# EAGLE library part XUNTONG (library surdu)
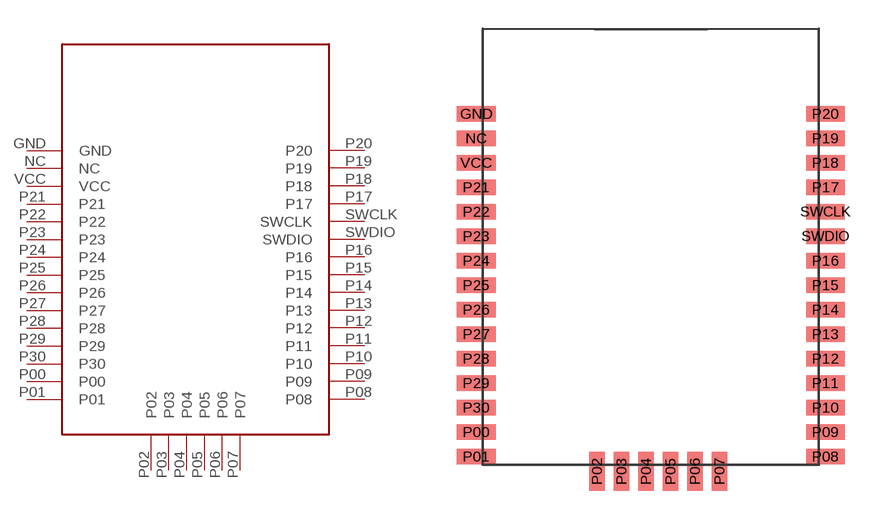
[diagram p0: symbol with the pads of SMD; footprint SMD]

Designator prefix -

## XUNTONG  [SMD]
GND  GND
NC  NC
P00  P00
P01  P01
P02  P02
P03  P03
P04  P04
P05  P05
P06  P06
P07  P07
P08  P08
P09  P09
P10  P10
P11  P11
P12  P12
P13  P13
P14  P14
P15  P15
P16  P16
P17  P17
P18  P18
P19  P19
P20  P20
P21  P21
P22  P22
P23  P23
P24  P24
P25  P25
P26  P26
P27  P27
P28  P28
P29  P29
P30  P30
SWCLK  SWCLK
SWDIO  SWDIO
VCC  VCC

## Footprint SMD (pad centres in mm)
smd 2 x 0.8: GND -8.84,6.4; NC -8.84,5.13; P00 -8.84,-10.11; P01 -8.84,-11.38; P08 9.26,-11.38; P09 9.26,-10.11; P10 9.26,-8.84; P11 9.26,-7.57; P12 9.26,-6.3; P13 9.26,-5.03; P14 9.26,-3.76; P15 9.26,-2.49; P16 9.26,-1.22; P17 9.26,2.59; P18 9.26,3.86; P19 9.26,5.13; P20 9.26,6.4; P21 -8.84,2.59; P22 -8.84,1.32; P23 -8.84,0.05; P24 -8.84,-1.22; P25 -8.84,-2.49; P26 -8.84,-3.76; P27 -8.84,-5.03; P28 -8.84,-6.3; P29 -8.84,-7.57; P30 -8.84,-8.84; SWCLK 9.26,1.32; SWDIO 9.26,0.05; VCC -8.84,3.86
smd 0.8 x 2: P02 -2.59,-12.15; P03 -1.32,-12.15; P04 -0.05,-12.15; P05 1.22,-12.15; P06 2.49,-12.15; P07 3.76,-12.15